# EAGLE library part M-UG-01 (library den)
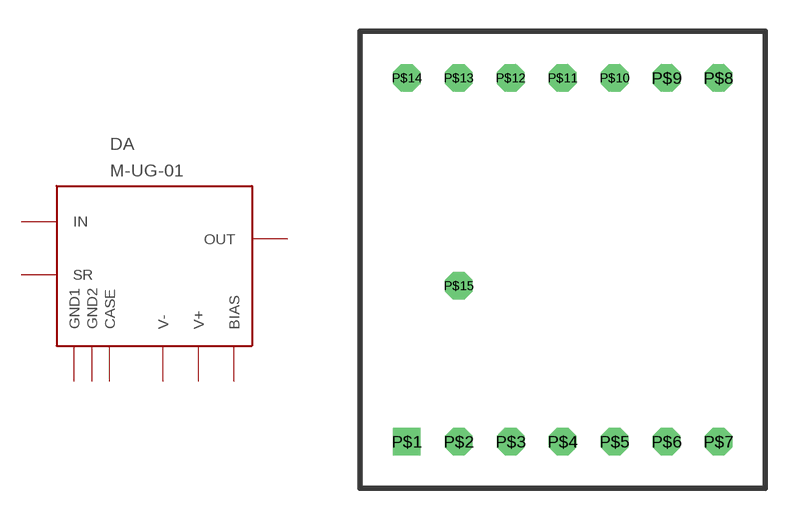
[diagram p40: symbol with the pads of 153.15-2; footprint 153.15-2]

Designator prefix DA

## M-UG-01  [153.15-2]
P$2  V+
P$3  V-
P$4  GND1
P$6  BIAS
P$7  OUT
P$9  IN
P$12  SR
P$14  GND2
P$15  CASE

## Footprint 153.15-2 (pad centres in mm)
drill 0.8 pad 1.27 square: P$1 0,0
drill 0.8 pad 1.27 octagon: P$2 2.5,0; P$3 5,0; P$4 7.5,0; P$5 10,0; P$6 12.5,0; P$7 15,0; P$8 15,17.5; P$9 12.5,17.5; P$10 10,17.5; P$11 7.5,17.5; P$12 5,17.5; P$13 2.5,17.5; P$14 0,17.5; P$15 2.5,7.5